# Altium schematic symbol library CAP,Tant,47uF,25VDC,2917.Schlib: 1 symbol
Pins are listed as number, name and electrical type; pins without a type are passive.

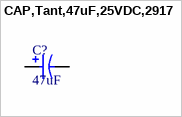
[diagram p0: symbol CAP,Tant,47uF,25VDC,2917]

## CAP,Tant,47uF,25VDC,2917
designator C?, comment 47uF
47 µF Molded Tantalum Capacitors 25 V 2917 (7343 Metric) 900mOhm
pins: 1, 2